# Altium schematic symbol library Symbols GOST.SchLib: 30 symbols
Pins are listed as number, name and electrical type; pins without a type are passive.

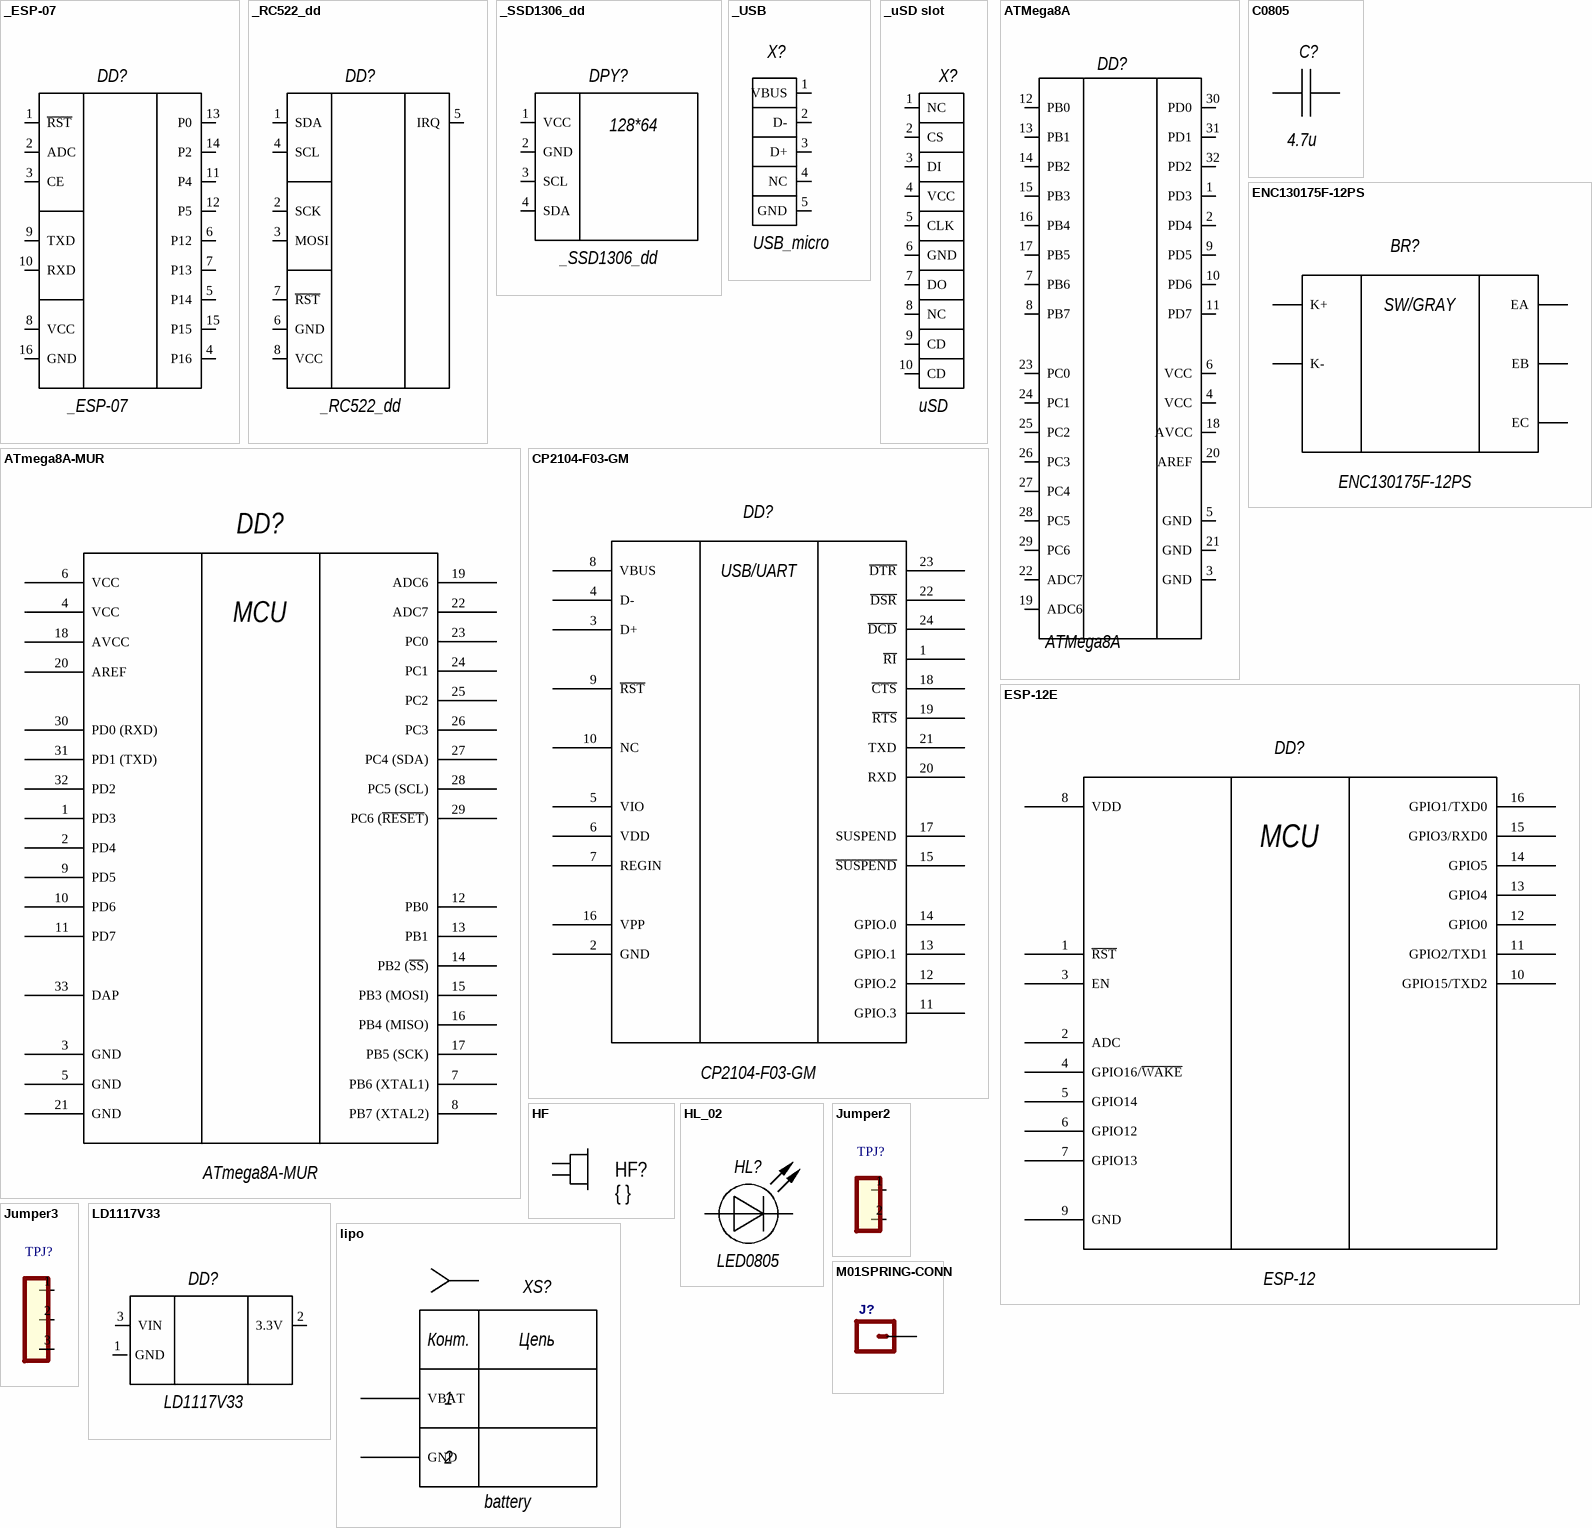
[diagram p0: symbols _ESP-07 to M01SPRING-CONN]

## _ESP-07
designator DD?
ESP8266 Wi-Fi module; Manufacter: Espressif Systems; Part Number: ESP-07 ESP8266 модуль
footprint ESP-07 (ESP8266 ESP-07 Module)
pins: 1 ~{RST}, 2 ADC, 3 CE, 4 P16, 5 P14, 6 P12, 7 P13, 8 VCC, 9 TXD, 10 RXD, 11 P4, 12 P5, 13 P0, 14 P2, 15 P15, 16 GND

## _RC522_dd
designator DD?
RC522 RFID module; Manufacter: NXP; Part Number: RFID-RC522 MFRC522 модуль
footprint RFID-RC522 (NXP RFID Reader Module)
pins: 1 SDA, 2 SCK, 3 MOSI, 4 SCL, 5 IRQ, 6 GND, 7 ~{RST}, 8 VCC

## _SSD1306_dd
designator DPY?
SSD1306 OLED Screen; Manufacter: SOLOMON SYSTECH; Part Number: SSD1306 OLED модуль
footprint SSD
pins: 1 VCC, 2 GND, 3 SCL, 4 SDA
text: 128*64

## _USB
designator X?, comment USB_micro
USB micro; Manufacter: MOLEX; Part Number: 47346-0001 uUSB роз'єм
footprint MiniUSB Socket (Connector; USB2.0, Type B, SM; 5 Position; Right Angle)
pins: 1 VBUS, 2 D-, 3 D+, 4 NC, 5 GND

## _uSD slot
designator X?, comment uSD
uSD slot; Manufacter: MOLEX; Part Number: 47346-0001 uSD роз'єм
footprint MICROSD Slot (MicroSD Card Socket)
pins: 1 NC, 2 CS, 3 DI, 4 VCC, 5 CLK, 6 GND, 7 DO, 8 NC, 9 CD, 10 CD

## ATMega8A
designator DD?
Atmel ATMega8A MCU <LF; Part Number: ATmega328P; ValueDescription: zbs; ValueType: 1; Manufacter: ATMEL; ValueManufacturerPartNumber: ATMega328P; ValueManufacturer: ATMEL
footprint TQFP80P900X900X120-32N (TQFP, 32-Leads, Body 7,00x7,00mm, Pitch 0,80mm, IPC Medium Density)
pins: 1 PD3, 2 PD4, 3 GND, 4 VCC, 5 GND, 6 VCC, 7 PB6, 8 PB7, 9 PD5, 10 PD6, 11 PD7, 12 PB0, 13 PB1, 14 PB2, 15 PB3, 16 PB4, 17 PB5, 18 AVCC, 19 ADC6, 20 AREF, 21 GND, 22 ADC7, 23 PC0, 24 PC1, 25 PC2, 26 PC3, 27 PC4, 28 PC5, 29 PC6, 30 PD0, 31 PD1, 32 PD2

## ATmega8A-MUR
designator DD?
8-bit AVR Microcontroller, 2.7-5.5V, 16MHz, 8KB Flash, 512 Bytes EEPROM, 1KB SRAM, 33-pin MLF, Industrial Grade (-40°C to 85°C), Reel; DatasheetVersion: revD, Feb-2011; PackageVersion: revE, May-2006; PackageReference: 32M1-A; PackageDescription: 32-Pin Micro Lead Frame Package (MLF),  5 x 5 x 1.0 mm Body, Pitch 0.50 mm, 3.10mm Exposed Pad; Code_JEDEC: MO-220-VHHD-2; ComponentLink1Description: Manufacturer URL; ComponentLink1URL: http://www.atmel.com/; ComponentLink2Description: ATmega8A Datasheet; ComponentLink2URL: http://www.atmel.com/dyn/resources/prod_documents/doc8159.pdf; ComponentLink3Description: ATmega8A Summary; ComponentLink3URL: http://www.atmel.com/dyn/resources/prod_documents/8159S.pdf
footprint atmega8a (QFN, 32-Leads, Body 5,00x5,00mm, Pitch 0,50mm, Thermal Pad 3,10x3,10mm, IPC Medium Density)
pins: 1 PD3, 2 PD4 , 3 GND, 4 VCC, 5 GND, 6 VCC, 7 PB6 (XTAL1), 8 PB7 (XTAL2), 9 PD5, 10 PD6, 11 PD7, 12 PB0, 13 PB1, 14 PB2 (~{SS}), 15 PB3 (MOSI), 16 PB4 (MISO), 17 PB5 (SCK), 18 AVCC, 19 ADC6, 20 AREF, 21 GND, 22 ADC7, 23 PC0, 24 PC1, 25 PC2, 26 PC3, 27 PC4 (SDA), 28 PC5 (SCL), 29 PC6 (~{RESET}), 30 PD0 (RXD), 31 PD1 (TXD), 32 PD2, 33 DAP
text: MCU

## C0805
designator C?  value 4.7u  (hidden comment: C0805)
Chip capasitor; Manufacter: MURATA; Part Number: GRJ32ER71H475KE11; Voltage: 50V; Tolerance: ±5%; Rem: SMD 0805
footprint RES0603 (Chip Resistor, 2-Leads, Body 1,60x0,80mm, IPC Medium Density)
pins: 1, 2

## CP2104-F03-GM
designator DD?
Single-Chip USB to UART Bridge, 4 Dig I/O Pins, Internal Oscillator, 1024 Bytes EEPROM, -40 to 85 degC, 24-pin QFN; Manufacturer: Silicon Labs; Internal Oscillator: TRUE; Sub-Family: USB Bridges; DatasheetVersion: Rev. 1.0; PackageReference: QFN-24; PackageDescription: 24-Pin Quad-Flat No-Leads Package, Body 4 x 4 mm, Pitch 0.5 mm; Supplier 1: Digi-Key; Supplier Part Number 1: 336-2008-5-ND; Supplier 2: Mouser; Supplier Part Number 2: 634-CP2104-F03-GM; EEPROM: 1024 Bytes; Mounting Technology: Surface Mount; Code_JEDEC: MO-220; Code_IPC: J-STD-020; PartNumber: CP2104-F03-GM; ComponentLink1Description: Manufacturer URL; ComponentLink1URL: http://www.silabs.com/; ComponentLink2Description: Datasheet; ComponentLink2URL: http://www.silabs.com/Support%20Documents/TechnicalDocs/cp2104.pdf; ComponentLink3Description: Package Specification; ComponentLink3URL: http://www.silabs.com/Support%20Documents/TechnicalDocs/C8051F93x-92x.pdf
footprint SLAB-QFN-24-2675x2675TP_N (QFN, 24-Leads, Body 4x4mm, Pitch 0.5mm, Thermal Pad 2.68x2.68mm, IPC Medium Density)
footprint SLAB-QFN-24-2675x2675TP_L (QFN, 24-Leads, Body 4x4mm, Pitch 0.5mm, Thermal Pad 2.68x2.68mm, IPC High Density)
footprint SLAB-QFN-24-2675x2675TP_M (QFN, 24-Leads, Body 4x4mm, Pitch 0.5mm, Thermal Pad 2.68x2.68mm, IPC Low Density)
pins: 1 ~{RI} "Ring Indicator control input (active low)", 2 GND "Ground. Must be tied to ground.", 3 D+ "USB D+", 4 D- "USB D-", 5 VIO "I/O Supply Voltage Input.", 6 VDD "Power Supply Voltage Input. Voltage Regulator Output. See Section 9.", 7 REGIN "5 V Regulator Input. This pin is the input to the on-chip voltage regulator.", 8 VBUS "VBUS Sense Input. This pin should be connected to the VBUS signal of a USB network.", 9 ~{RST} "Device Reset. Open-drain output of internal POR or VDD monitor. An external source can initiate a system reset by driving this pin low for the time specified in Table 4.", 10 NC "This pin should be left unconnected or tied to VIO.", 11 GPIO.3 "User-configurable input or output.", 12 GPIO.2 "User-configurable input or output.", 13 GPIO.1 "User-configurable input or output.", 14 GPIO.0 "User-configurable input or output.", 15 ~{SUSPEND} "This pin is logic low when the CP2104 is in the USB Suspend state.", 16 VPP "Connect a 4.7 uF capacitor between this pin and ground to support ROM programming via USB interface.", 17 SUSPEND "This pin is logic high when the CP2104 is in the USB Suspend state.", 18 ~{CTS} "Clear to Send control input (active low)", 19 ~{RTS} "Ready to Send control output (active low)", 20 RXD "Asynchronous data input (UART Receive)", 21 TXD "Asynchronous data output (UART Transmit)", 22 ~{DSR} "Data Set Ready control input (active low)", 23 ~{DTR} "Data Terminal Ready control output (active low)", 24 ~{DCD} "Data Carrier Detect control input (active low)"
text: USB/UART

## ENC130175F-12PS
designator BR?
footprint ENCODER_LED_2
pins: EA, EB, EC, K+, K-
text: SW/GRAY

## ESP-12E
designator DD?, comment ESP-12
ESP-12 Wi-Fi Module; IC: ESP8266-EX; Vendor: Ai-thinker
footprint ESP_12_E (ESP-12 Wi-Fi Module by AI-Thinker)
footprint ESP_12_E_L (ESP-12 Wi-Fi Module by AI-Thinker)
pins: 1 ~{RST} "Reset", 2 ADC "ADC Input Or TOUT Output", 3 EN "Chip enable", 4 GPIO16/~{WAKE} "GPIO16 or Deep-Sleep Wakeup", 5 GPIO14 "GPIO14 or SPI CLK", 6 GPIO12 "GPIO12 or SPIQ", 7 GPIO13 "GPIO13 or SPID", 8 VDD "Power supply", 9 GND "Power ground", 10 GPIO15/TXD2 "GPIO15 or SPICS", 11 GPIO2/TXD1 "GPIO2 or TX", 12 GPIO0 "GPIO0 or SPICS2", 13 GPIO4 "GPIO5", 14 GPIO5 "GPIO4", 15 GPIO3/RXD0 "GPIO3 or UART RXD", 16 GPIO1/TXD0 "GPIO1 or UART TXD"
text: MCU

## HF
designator HF?, comment { }
Пьезоизлучатель; ЕСКД: ГОСТ 2.747-68; Manufacturer: *
footprint PCBComponent_1
pins: 1 Terminal A, 2 Terminal B

## HL_02
designator HL?, comment LED0805
Светодиод; Manufacter: Kingbright; Part Number: KP-2012VGC-A
footprint RES0603 (Chip Resistor, 2-Leads, Body 1,60x0,80mm, IPC Medium Density)
pins: 1 A, 2 K

## Jumper2
designator TPJ?  (value not drawn)
footprint SJ_2S-NO
pins: 1 PD3, 2 PD4

## Jumper3
designator TPJ?  (value not drawn)
footprint SJ_3
pins: 1 PD3, 2 PD4, 3 PD5

## LD1117V33
designator DD?
LD1117V33 3.3V Voltage regulator
pins: 1 GND, 2 3.3V, 3 VIN

## lipo
designator XS?, comment battery
Manufacter: NXP; Part Number: RFID-RC522 MFRC522 модуль
footprint PCBComponent_1 - duplicate
pins: 1 VBAT, 2 GND
text: Конт.; Цепь

## M01SPRING-CONN
designator J?
footprint SPRING-CONNECTOR
pins: P$2 1

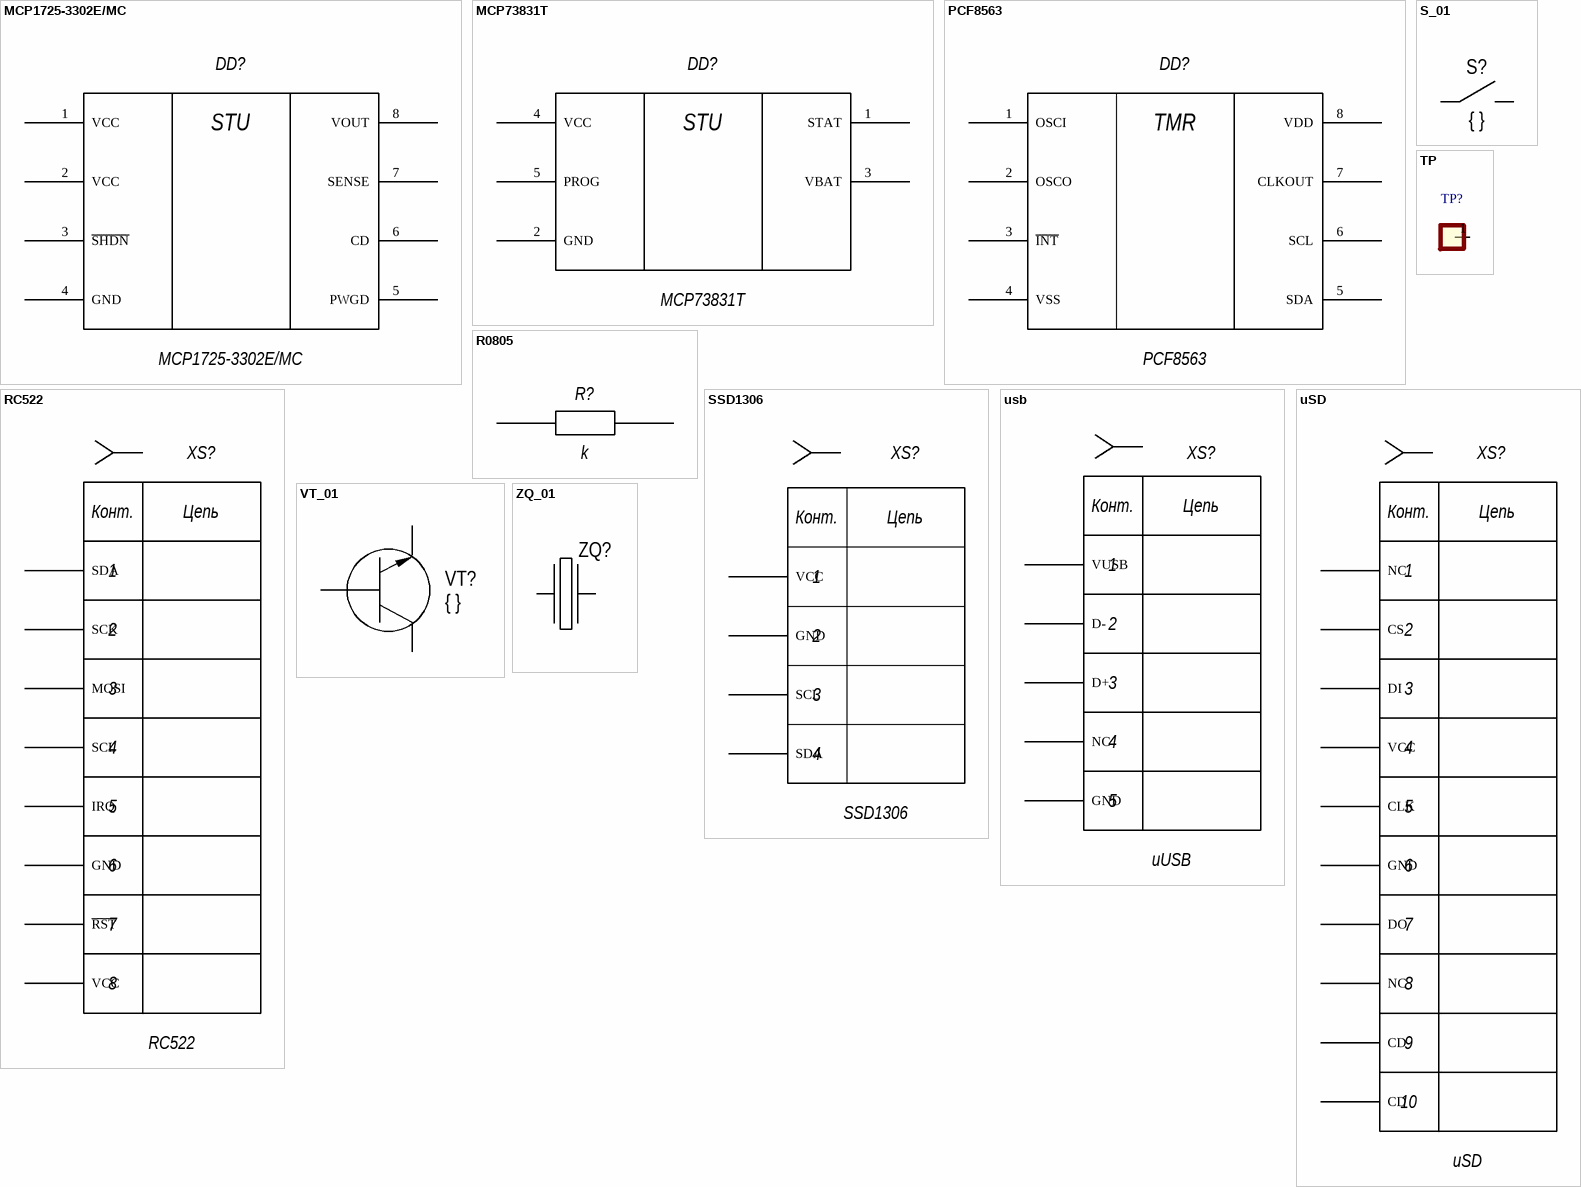
[diagram p1: symbols MCP1725-3302E/MC to ZQ_01]

## MCP1725-3302E/MC
designator DD?
MCP1725-3302E/MC ULDO; Manufacter: Microchip; Part Number: MCP1725-3302E/MC
footprint SOIC127P600X175-8N (SOIC, 8-Leads, Body 4,90x3,90mm, Pitch 1,27mm, IPC Medium Density)
pins: 1 VCC, 2 VCC, 3 ~{SHDN}, 4 GND, 5 PWGD, 6 CD, 7 SENSE, 8 VOUT
text: STU

## MCP73831T
designator DD?
MCP73831T Li-ion/Li-po charger; Manufacter: Microchip; Part Number: MCP73831/2  SOT-23-5
footprint SOT95P270X145-5N (SOT23, 5-Leads, Body 2,90x2,70mm, Pitch 0,95mm, IPC Medium Density)
pins: 1 STAT, 2 GND, 3 VBAT, 4 VCC, 5 PROG
text: STU

## PCF8563
designator DD?
Manufacter: Microchip; Part Number: MCP1725-3302E/MC
footprint SOIC8 (SOIC, 8-Leads, Body 4,90x4,00mm, Pitch 1,27mm, IPC Medium Density)
pins: 1 OSCI, 2 OSCO, 3 ~{INT}, 4 VSS, 5 SDA, 6 SCL, 7 CLKOUT, 8 VDD
text: TMR

## R0805
designator R?  value k  (hidden comment: R0805)
Резистор; Manufacter: YAGEO; Part Number: RC0805JR-070RL; Voltage: 150V; Tolerance: ±5%
footprint RES0603 (Chip Resistor, 2-Leads, Body 1,60x0,80mm, IPC Medium Density)
pins: 1 Terminal A, 2 Terminal B
7 alternate drawings of the same symbol

## RC522
designator XS?
RC522 RFID module; Manufacter: NXP; Part Number: RFID-RC522 MFRC522 модуль
footprint RFID-RC522 (NXP RFID Reader Module)
pins: 1 SDA, 2 SCK, 3 MOSI, 4 SCL, 5 IRQ, 6 GND, 7 ~{RST}, 8 VCC
text: Конт.; Цепь

## S_01
designator S?, comment { }
Контакт замыкающий коммутационного устройства; ЕСКД: ГОСТ 2.755-87; Manufacturer: *
pins: 1, 2

## SSD1306
designator XS?
SSD1306 OLED Screen Module; Manufacter: NXP; Part Number: RFID-RC522 MFRC522 модуль
footprint SSD
pins: 1 VCC, 2 GND, 3 SCL, 4 SDA
text: Конт.; Цепь

## TP
designator TP?  (value not drawn)
footprint TP no hole
footprint TP hole plated
pins: 1 PD3

## usb
designator XS?, comment uUSB
micro USB; Manufacter: NXP; Part Number: RFID-RC522 MFRC522 модуль
footprint USB-MICROB
pins: 1 VUSB, 2 D-, 3 D+, 4 NC, 5 GND
text: Конт.; Цепь

## uSD
designator XS?
RC522 RFID module; Manufacter: NXP; Part Number: RFID-RC522 MFRC522 модуль
footprint MICROSD Slot (MicroSD Card Socket)
pins: 1 NC, 2 CS, 3 DI, 4 VCC, 5 CLK, 6 GND, 7 DO, 8 NC, 9 CD, 10 CD
text: Конт.; Цепь

## VT_01
designator VT?, comment { }
Транзистор биполярный, NPN; ЕСКД: ГОСТ 2.730-73; Manufacturer: *
footprint SOT95P245X110-3N (SOT23, 3-Leads, Body 2,90x2,45mm, Pitch 0,95mm, IPC Medium Density)
pins: 1 B, 2 E, 3 K
3 alternate drawings of the same symbol

## ZQ_01
designator ZQ?
Элемент пьезоэлектрический с двумя выводами; Manufacter: CITIZEN; Part Number: HC49/US 16MHz
footprint HC49
footprint PCBComponent_1 - duplicate1
pins: 1, 2